# EAGLE library part VOLTAGE_DIVIDER (library MARK)
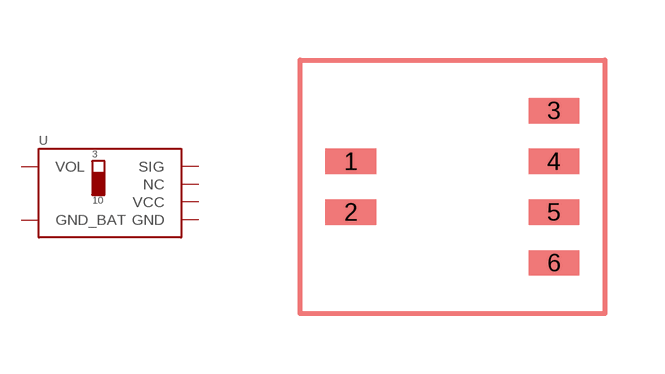
[diagram p0: symbol with the pads of VOLTAGE_DIVIDER; footprint VOLTAGE_DIVIDER]

Designator prefix -

## VOLTAGE_DIVIDER  [VOLTAGE_DIVIDER]
1  VOL
2  GND_BAT
3  SIG
4  NC
5  VCC
6  GND

## Footprint VOLTAGE_DIVIDER (pad centres in mm)
smd 1.27 x 0.635: 1 -2.54,1.27; 2 -2.54,0; 3 2.54,2.54; 4 2.54,1.27; 5 2.54,0; 6 2.54,-1.27